# Altium footprint library LM2596.PcbLib: 1 footprints
Each footprint in its own frame and in the unit in brackets; x right, y up, seen from the top. Pads: shape width x height; smd on the part's side, far side on the other; paste and mask are expansions set on the pad; w line width, h text height; cw(c..) or ccw(c..) is an arc to the next point about the centre after c.
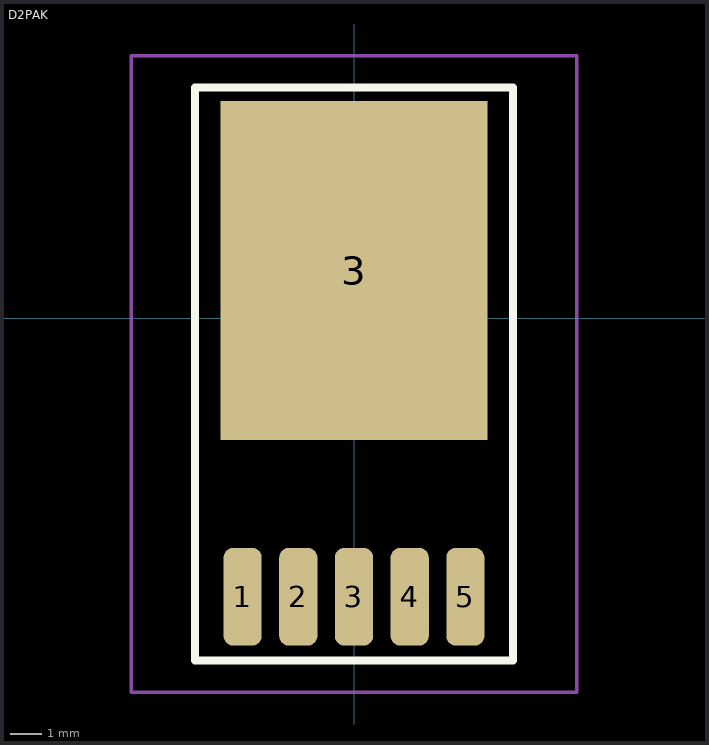
[diagram p0: the footprint, top view; thin cyan lines are the x and y axes]

## D2PAK [mm] "LM2596 PACKAGE-263-5"
pads (6):
  rrect50% 1.2x3.075 smd: 1(-3.5,-8.75) 2(-1.75,-8.75) 3(0,-8.75) 4(1.75,-8.75) 5(3.5,-8.75)
  rect 8.38x10.66 smd: 3(0,1.5)
Top Overlay:
  lines w0.254: -5,-10.75 -2.25,-10.75 2.75,-10.75 5,-10.75 5,7.25 -5,7.25 -5,6.75 -5,-10.75
Mechanical 15:
  lines w0.1: -1.25,0 1.25,0 ; 0,-1.25 0,1 ; -7,-11.75 7,-11.75 7,8.25 -7,8.25 -7,-11.75
3D body "TO263-5-1.stp": height 4.22, standoff 0, extent -4.911,-9.561 4.911,5.041